# EAGLE library part 87833-1620 (library Neel)
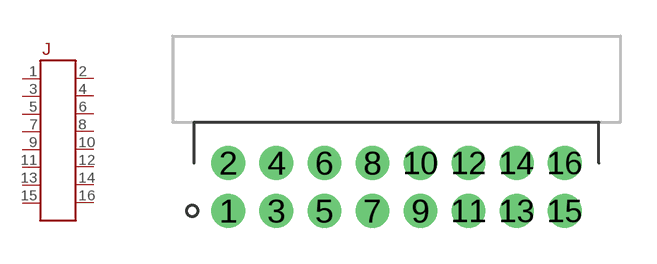
[diagram p54: symbol with the pads of 2X8-2MM; footprint 2X8-2MM]

Designator prefix J

## 87833-1620  [2X8-2MM]
1  P$1
2  P$2
3  P$3
4  P$4
5  P$5
6  P$6
7  P$7
8  P$8
9  P$9
10  P$10
11  P$11
12  P$12
13  P$13
14  P$14
15  P$15
16  P$16

## Footprint 2X8-2MM (pad centres in mm)
drill 0.9 pad 1.27: 1 -6.936,-1; 2 -6.936,1; 3 -4.936,-1; 4 -4.936,1; 5 -2.936,-1; 6 -2.936,1; 7 -0.936,-1; 8 -0.936,1; 9 1.064,-1; 10 1.064,1; 11 3.064,-1; 12 3.064,1; 13 5.064,-1; 14 5.064,1; 15 7.064,-1; 16 7.064,1